# Altium footprint library SOT65P210X100-6N.PcbLib: 1 footprints
Each footprint in its own frame and in the unit in brackets; x right, y up, seen from the top. Pads: shape width x height; smd on the part's side, far side on the other; paste and mask are expansions set on the pad; w line width, h text height; cw(c..) or ccw(c..) is an arc to the next point about the centre after c.
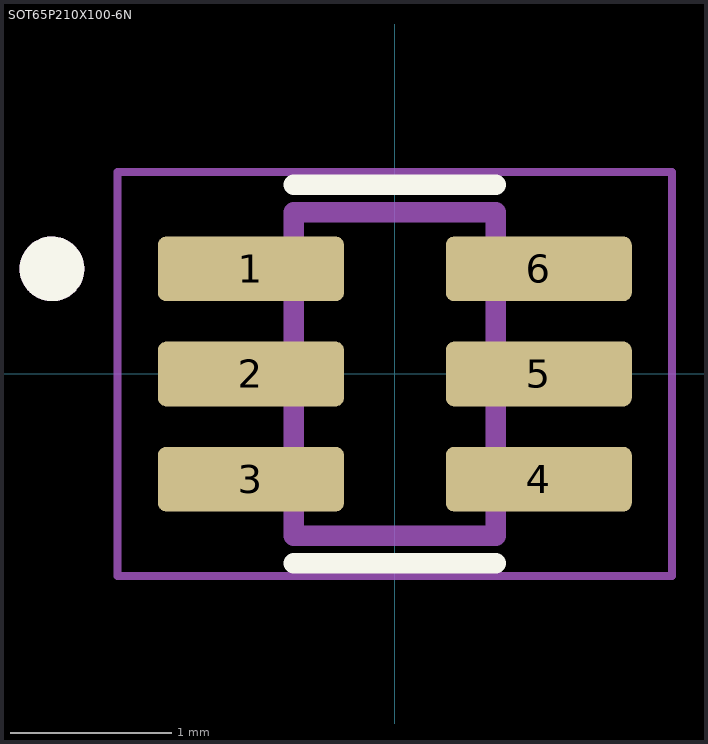
[diagram p0: the footprint, top view; thin cyan lines are the x and y axes]

## SOT65P210X100-6N [mm]
height 1
pads (6):
  rrect25% 1.15x0.4 smd: 1(-0.89,0.65) 2(-0.89,0) 3(-0.89,-0.65) 4(0.89,-0.65) 5(0.89,0) 6(0.89,0.65)
Top Overlay:
  circle w0.2: c-2.12,0.65 r0.1
  lines w0.127: -0.625,-1.17 0.625,-1.17 ; -0.625,1.17 0.625,1.17
Mechanical 13:
  circle w0.2: c-2.12,0.65 r0.1
  lines w0.127: -0.625,-1 -0.625,1 0.625,1 0.625,-1 -0.625,-1
Mechanical 15:
  lines w0.05: -1.715,-1.25 -1.715,1.25 1.715,1.25 1.715,-1.25 -1.715,-1.25
3D body "step_temp.STEP": height 1.1, standoff 0, extent -1.05,-1 1.05,1